# Altium schematic symbol library SCH - INTERFACE - ST ST1480AX.SCHLIB: 1 symbol
Pins are listed as number, name and electrical type; pins without a type are passive.

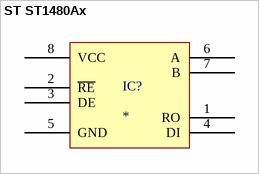
[diagram p0: symbol ST ST1480Ax]

## ST ST1480Ax
designator IC?
pins: 1 RO, 2 ~{RE}, 3 DE, 4 DI, 5 GND, 6 A, 7 B, 8 VCC